# Altium schematic symbol library CopterControl 3D.SCHLIB: 19 symbols
Pins are listed as number, name and electrical type; pins without a type are passive.

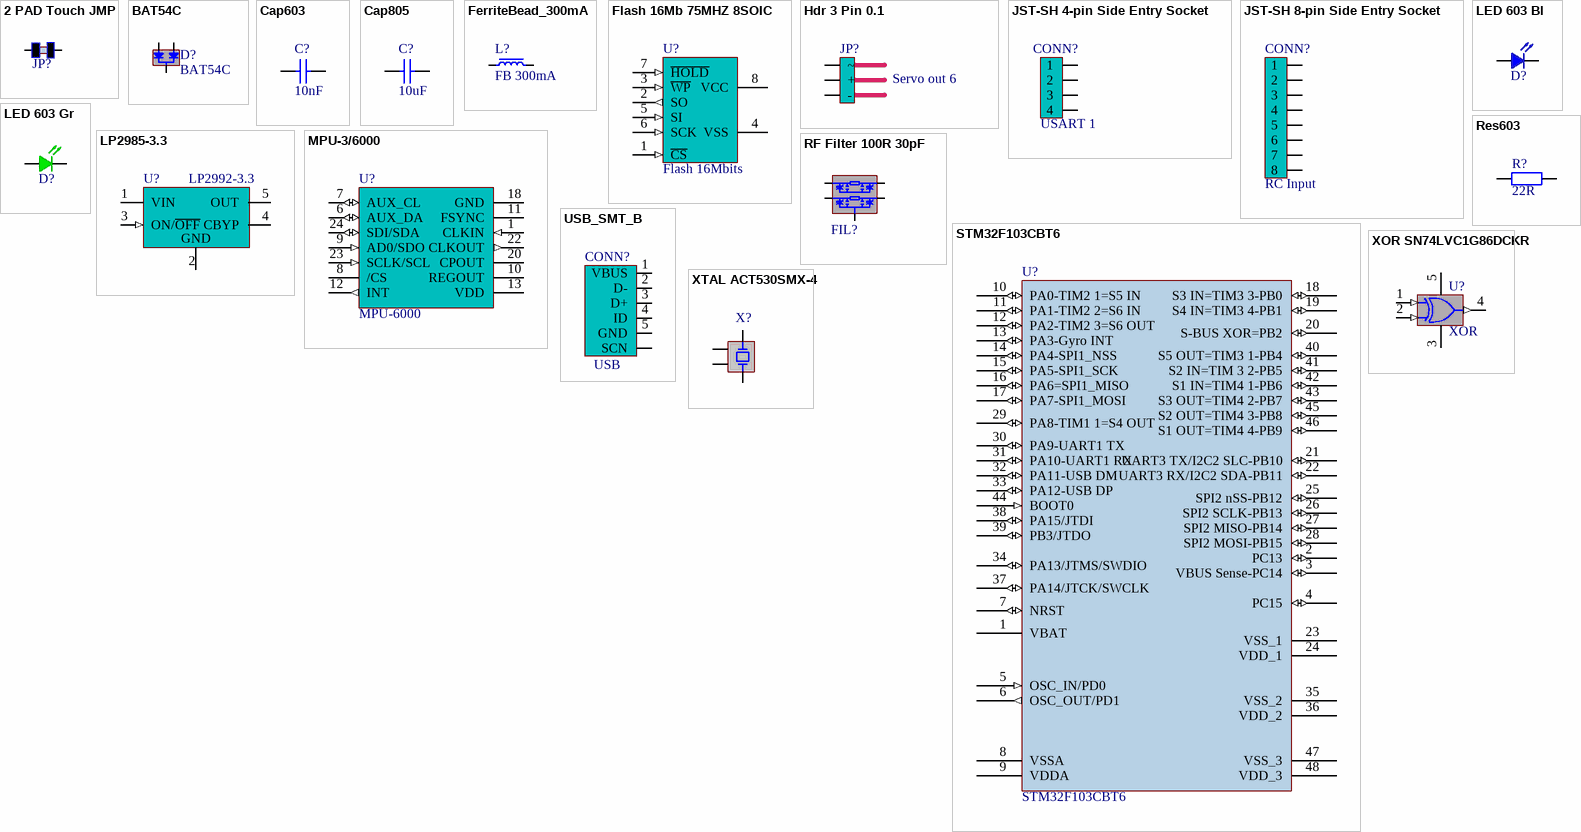
[diagram p0: symbols 2 PAD Touch JMP to XTAL ACT530SMX-4]

## 2 PAD Touch JMP
designator JP?  (value not drawn)
2 Pad Touch Jumper; LatestRevisionDate: 1-Nov-2010; LatestRevisionNote: Released OpenPilot Lib; Published: 1-Nov-2010; Publisher: The OpenPilot Project
footprint TOUCH JMP 2PAD (Touch Jumper 2 Pad)
pins: 1, 2

## BAT54C
designator D?
Dual Diode Command Cathode; Supplier 1: Digi-Key; Supplier Part Number 1: 497-3786-1-ND
footprint SOT23-3N (SOT23, 3-Leads, Body 2.9x1.3mm, Pitch 0.95mm, Lead Span 2.5mm, IPC Medium Density)
pins: 1 A1, 2 A2, 3 COM

## Cap603
designator C?  value 10nF  (hidden comment: Cap603)
Capacitor SMD; Published: 1-Nov-2010; LatestRevisionDate: 1-Nov-2010; LatestRevisionNote: Released OpenPilot Lib; PackageReference: 0603 (1608 Metric); Publisher: The OpenPilot Project; Supplier 1: Digi-Key; Supplier Part Number 1: 399-1091-1-ND
simulation model CAP (Capacitor)
signal-integrity model Cap
footprint CAP603L (Chip Capacitor, Body 1.6x0.8mm, IPC High Density)
pins: 1, 2

## Cap805
designator C?  value 10uF  (hidden comment: Cap805)
Capacitor SMD; Published: 1-Nov-2010; LatestRevisionDate: 1-Nov-2010; LatestRevisionNote: Released OpenPilot Lib; PackageReference: 0805 (2012 Metric); Publisher: The OpenPilot Project; Supplier 1: Digi-Key; Supplier Part Number 1: 490-3886-1-ND
simulation model CAP (Capacitor)
signal-integrity model Cap
footprint CAP805L (Chip Capacitor, Body 2.0x1.3mm, IPC High Density)
pins: 1, 2

## FerriteBead_300mA
designator L?, comment FB 300mA
Ferrite Bead 300mA; Manufacturer: Generic Components; Class: Passive; Supplier 1: Digi-Key; Supplier Part Number 1: 732-1586-1-ND
footprint IND603N (Chip Inductor, Body 1.6x0.8mm, IPC Medium Density)
pins: 1, 2

## Flash 16Mb 75MHZ 8SOIC
designator U?, comment Flash 16Mbits
16Mbit SPI Flash Memory; ComponentLink2Description: Datasheet; LatestRevisionDate: 1-Nov-2010; LatestRevisionNote: Released OpenPilot Lib; Published: 1-Nov-2010; Publisher: The OpenPilot Project; Supplier 1: Digi-Key; Supplier Part Number 1: M25P16-VMN6P-ND
footprint SOIC8_N (8-Pin Small Outline Integrated Circuit Package (SOIC8), IPC Medium Density)
pins: 1 ~{CS} (in), 2 SO (out), 3 ~{WP} (in), 4 VSS (power), 5 SI (in), 6 SCK (in), 7 ~{HOLD} (in), 8 VCC (power)

## Hdr 3 Pin 0.1
designator JP?, comment Servo out 6
Header, 3-Pin, 0.1"; Manufacturer: Generic Components; Class: Connector; Supplier 1: Digi-Key; Supplier Part Number 1: MTLW-103-23-S-S-260-ND
footprint SIP3 - 0.1 (Standard 0.1 3 Pin Header)
pins: 1 ~, 2 +, 3 -

## JST-SH 4-pin Side Entry Socket
designator CONN?, comment USART 1
JST-SH 4-pin Side Entry Socket; Manufacturer: Generic Components; Class: Connector; Supplier 1: Digi-Key; Supplier Part Number 1: 455-1804-1-ND
footprint JST SH 4 Pin Side Entry (SM04B-SRSS-TB)
pins: 1, 2, 3, 4

## JST-SH 8-pin Side Entry Socket
designator CONN?, comment RC Input
JST-SH 8-pin Side Entry Socket; Manufacturer: Generic Components; Class: Connector; Supplier 1: Digi-Key; Supplier Part Number 1: 455-1808-1-ND
footprint JST SH 8 Pin Side Entry (SM08B-SRSS-TB)
pins: 1, 2, 3, 4, 5, 6, 7, 8

## LED 603 Bl
designator D?, comment Blue  (value not drawn)
Blue 603 LED; Supplier 1: Digi-Key; Supplier Part Number 1: 350-2037-1-ND
footprint LED603N (Chip LED, Body 1.6x0.8mm, IPC Medium Density)
pins: 1 K, 2 A

## LED 603 Gr
designator D?, comment Green  (value not drawn)
Green 603 LED; Value: 2.1v 20mA; Supplier 1: Digi-Key; Supplier Part Number 1: 754-1116-1-ND
footprint LED603N (Chip LED, Body 1.6x0.8mm, IPC Medium Density)
pins: 1 K, 2 A

## LP2985-3.3
designator U?, comment LP2992-3.3
3.3V 250mA LDO Regulator; Manufacturer: National Semiconductor; Manufacturer Part Number: LP2992AIM5-3.3/NOPB; Regulator Topology: Positive Fixed; Voltage - Input: Up to 16V; Voltage - Dropout (Typical): 0.45V @ 250mA; Number of Regulators: 1; Supplier 1: Digi-Key; Supplier Part Number 1: LP2992AIM5-3.3CT-ND; RoHS: RoHS Compliant; Category: Integrated Circuits (ICs); Stock 1: 15821; Pricing 1: 1=1.86, 25=1.4712, 100=1.3239, 250=1.15224, 500=1.02966 (AUD); Voltage - Output: 3.3V; Current - Output: 250mA; Current - Limit (Min): -; Operating Temperature: -40°C ~ 125°C; Mounting Type: Surface Mount; Package / Case: SC-74A, SOT-753; Supplier Device Package: SOT-23-5; Packaging: Cut Tape (CT); ComponentLink1URL: http://www.national.com/ds/LP/LP2992.pdf; ComponentLink1Description: http://www.national.com/ds/LP/LP2992.pdf
footprint SOT23-5L (SOT23, 5-Leads, Body 2.9x1.6mm, Pitch 0.95mm, Lead Span 2.8mm, IPC High Density)
pins: 1 VIN (power), 2 GND (power), 3 ON/~{OFF} (in), 4 CBYP, 5 OUT (power)

## MPU-3/6000
designator U?, comment MPU-6000
Invensense MPU-3/6000,  3-axis Gyros & Accel on 6000; ComponentLink2Description: Datasheet; LatestRevisionDate: 1-Nov-2010; LatestRevisionNote: Released OpenPilot Lib; Published: 1-Nov-2010; Publisher: The OpenPilot Project; Manufacturer: Invensense; Supplier 1: Invensense; Supplier Part Number 1: MPU-6000
footprint IMU-3000
pins: 1 CLKIN (in), 2 NC (hiz) hidden, 3 NC (hiz) hidden, 4 NC (hiz) hidden, 5 NC (hiz) hidden, 6 AUX_DA (io), 7 AUX_CL (io), 8 /CS, 9 AD0/SDO (in), 10 REGOUT, 11 FSYNC, 12 INT (out), 13 VDD (power), 14 NC (io) hidden, 15 NC (hiz) hidden, 16 NC (hiz) hidden, 17 NC (hiz) hidden, 18 GND (power), 19 RESV hidden, 20 CPOUT, 21 RESV hidden, 22 CLKOUT (out), 23 SCLK/SCL (in), 24 SDI/SDA (io)

## Res603
designator R?  value 22R  (hidden comment: Res603)
Resistor SMD; Published: 1-Nov-2010; LatestRevisionDate: 1-Nov-2010; LatestRevisionNote: Released OpenPilot Lib; PackageReference: 0402 (1005 Metric); Publisher: The OpenPilot Project; Supplier 1: Digi-Key; Supplier Part Number 1: P22GCT-ND
simulation model RESISTOR (Resistor)
signal-integrity model Res
footprint RES603N (Chip Resistor, Body 1.6x0.8mm, IPC Medium Density)
pins: 1, 2

## RF Filter 100R 30pF
designator FIL?, comment IP4256CZ5-W,115  (value not drawn)
IP4256CZ5-W,115 2 channel, 100R, 30pF, RF ESD Filter; Manufacturer: Generic Components; Class: Passive; Supplier 1: Digi-Key; Supplier Part Number 1: 568-5871-1-ND; ComponentLink2Description: Datasheet; LatestRevisionDate: 1-Nov-2010; LatestRevisionNote: Released OpenPilot Lib; Published: 1-Nov-2010; Publisher: The OpenPilot Project
footprint SOT-665 (NXP SOT665)
pins: 1, 2 PAD, 3, 4, 5

## STM32F103CBT6
designator U?
STM32 ARM-based 32-bit MCU with 128 Kbytes Flash, 48-pin LQFP, Industrial Temperature; Published: 30-May-2008; DatasheetVersion: rev6, Mar-2008; PackageVersion: Mar-2008; PackageReference: LQFP48; Publisher: Altium Limited; PackageDescription: 48-Pin Low-Profile Quad Flat Pack, 7 x 7 mm Body, 0.5 mm Pitch (LQFP48); ComponentLink1Description: Manufacturer Link; ComponentLink1URL: www.st.com/stm32; ComponentLink2Description: Datasheet; ComponentLink2URL: http://www.st.com/stonline/products/literature/ds/13587.pdf; Supplier 1: Digi-Key; Supplier Part Number 1: 497-6288-ND
footprint STM32 48 Lead (Thin QFP, 48-Leads, Body 7x7mm, Pitch 0.5mm, IPC Medium Density)
pins: 1 VBAT (power), 2 PC13 (io), 3 VBUS Sense-PC14 (io), 4 PC15 (io), 5 OSC_IN/PD0 (in), 6 OSC_OUT/PD1 (out), 7 NRST (io), 8 VSSA (power), 9 VDDA (power), 10 PA0-TIM2 1=S5 IN (io), 11 PA1-TIM2 2=S6 IN (io), 12 PA2-TIM2 3=S6 OUT (io), 13 PA3-Gyro INT (io), 14 PA4-SPI1_NSS (io), 15 PA5-SPI1_SCK (io), 16 PA6=SPI1_MISO (io), 17 PA7-SPI1_MOSI (io), 18 S3 IN=TIM3 3-PB0 (io), 19 S4 IN=TIM3 4-PB1 (io), 20 S-BUS XOR=PB2 (io), 21 UART3 TX/I2C2 SLC-PB10 (io), 22 UART3 RX/I2C2 SDA-PB11 (io), 23 VSS_1 (power), 24 VDD_1 (power), 25 SPI2 nSS-PB12 (io), 26 SPI2 SCLK-PB13 (io), 27 SPI2 MISO-PB14 (io), 28 SPI2 MOSI-PB15 (io), 29 PA8-TIM1 1=S4 OUT (io), 30 PA9-UART1 TX (io), 31 PA10-UART1 RX (io), 32 PA11-USB DM (io), 33 PA12-USB DP (io), 34 PA13/JTMS/SWDIO (io), 35 VSS_2 (power), 36 VDD_2 (power), 37 PA14/JTCK/SWCLK (io), 38 PA15/JTDI (io), 39 PB3/JTDO (io), 40 S5 OUT=TIM3 1-PB4 (io), 41 S2 IN=TIM 3 2-PB5 (io), 42 S1 IN=TIM4 1-PB6 (io), 43 S3 OUT=TIM4 2-PB7 (io), 44 BOOT0 (in), 45 S2 OUT=TIM4 3-PB8 (io), 46 S1 OUT=TIM4 4-PB9 (io), 47 VSS_3 (power), 48 VDD_3 (power)

## USB_SMT_B
designator CONN?, comment USB
USB Type-B SMT Socket; Class: Connector; Supplier 1: Digi-Key; Supplier Part Number 1: 670-1190-1-ND
footprint USB SMD (DX2R005HN2E700)
pins: 0 SCN, 1 VBUS, 2 D-, 3 D+, 4 ID, 5 GND

## XOR SN74LVC1G86DCKR
designator U?, comment XOR
XOR Gate SN74LVC1G86DCKR; Supplier 1: Digi-Key; Supplier Part Number 1: 296-9854-1-ND
footprint DCK-5 (SOT23-DCK, 5-Leads, Body 2.2x2.4mm (max), Pitch 0.65mm, IPC High Density)
pins: 1 A (in), 2 B (in), 3 GND (power), 4 Y (out), 5 VCC (power)

## XTAL ACT530SMX-4
designator X?, comment 8MHz  (value not drawn)
Surface Mount Quartz Crystal, Digikey 535-9720-1-ND; Class: Oscillator; SubClass: Crystal Oscillator; Supplier 1: Digi-Key; Supplier Part Number 1: 535-9720-1-ND
footprint XTAL ACT530SMX-4 Series (ACT530SMX-4Series from ACT)
pins: 1, 2, 3, 4